# EAGLE library part FDMQ8403 (library FDMQ8403 4x N-Channel Fet)
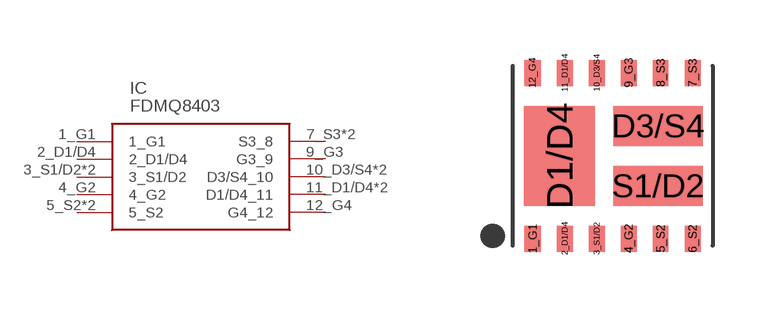
[diagram p0: symbol with the pads of MLP-12; footprint MLP-12]

Designator prefix IC

## FDMQ8403  [MLP-12]
1_G1  1_G1
2_D1/D4  2_D1/D4
3_S1/D2  3_S1/D2
4_G2  4_G2
5_S2  5_S2
6_S2  5_S2
7_S3  S3_8
8_S3  S3_8
9_G3  G3_9
10_D3/S4  D3/S4_10
11_D1/D4  D1/D4_11
12_G4  G4_12
D1/D4  D1/D4_11
D3/S4  D3/S4_10
S1/D2  3_S1/D2

## Footprint MLP-12 (pad centres in mm)
smd 0.4 x 0.65: 1_G1 -2,-2.075; 2_D1/D4 -1.2,-2.075; 3_S1/D2 -0.4,-2.075; 4_G2 0.4,-2.075; 5_S2 1.2,-2.075; 6_S2 2,-2.075; 7_S3 2,2.075; 8_S3 1.2,2.075; 9_G3 0.4,2.075; 10_D3/S4 -0.4,2.075; 11_D1/D4 -1.2,2.075; 12_G4 -2,2.075
smd 1.78 x 2.5: D1/D4 -1.33,0
smd 2.23 x 1: D3/S4 1.135,0.75; S1/D2 1.135,-0.75